# Altium footprint library CapSMD.PcbLib: 8 footprints
Each footprint in its own frame and in the unit in brackets; x right, y up, seen from the top. Pads: shape width x height; smd on the part's side, far side on the other; paste and mask are expansions set on the pad; w line width, h text height; cw(c..) or ccw(c..) is an arc to the next point about the centre after c.
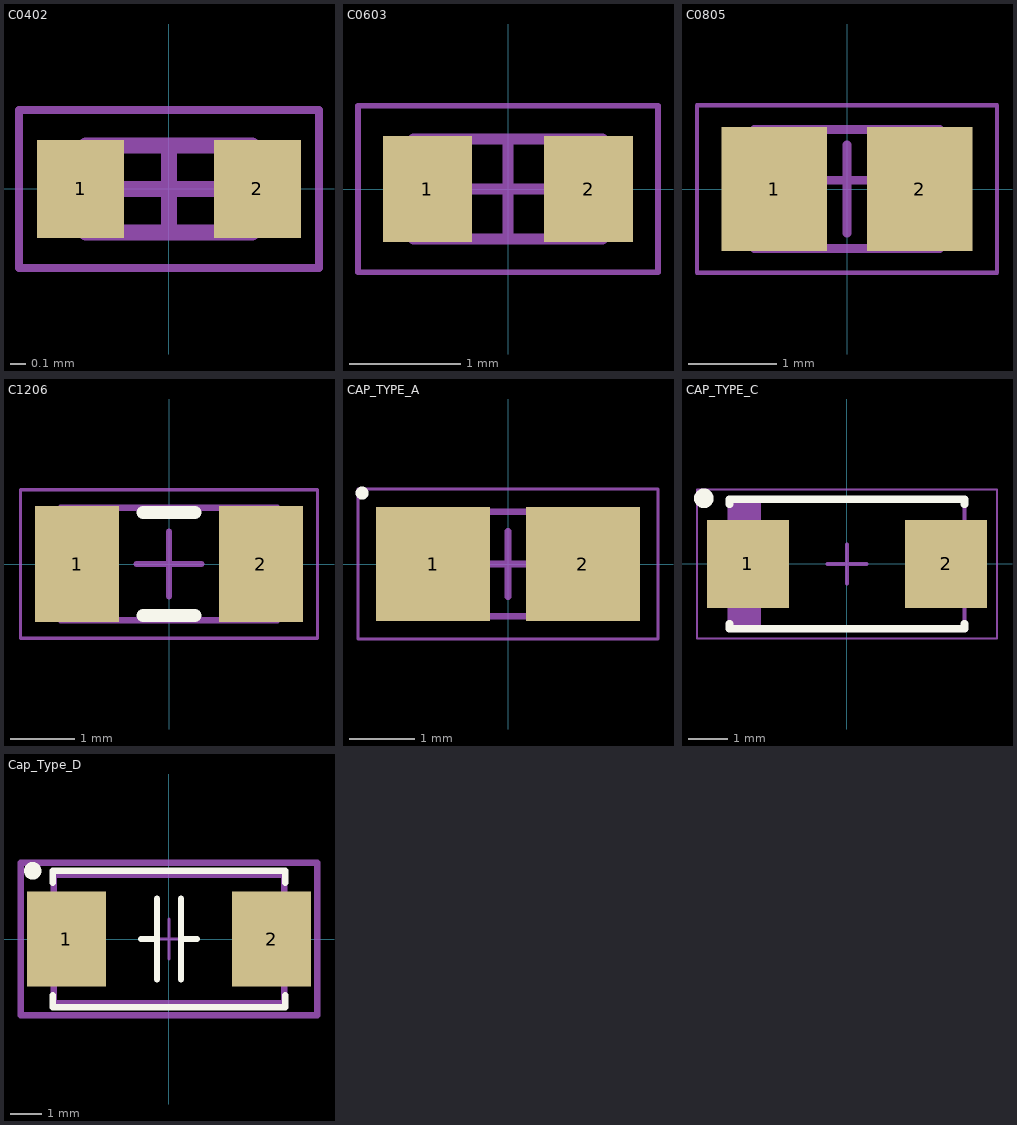
[diagram p0: the footprints below, top view; thin cyan lines are the x and y axes]

## C0402 [mm] "Chip Capacitor, 2-Leads, Body 1,00x0,50mm, IPC Medium Density"
height 0.55
pads (2):
  rect 0.55x0.62 smd: 1(-0.56,0) 2(0.56,0)
Mechanical 13:
  lines w0.1: -0.525,-0.275 0.525,-0.275 0.525,0.275 -0.525,0.275 -0.525,-0.275
Mechanical 15:
  lines w0.05: -0.95,-0.5 0.95,-0.5 0.95,0.5 -0.95,0.5 -0.95,-0.5
  lines w0.1: -0.275,0 0.275,0 ; 0,-0.275 0,0.275
3D body: height 0.55, standoff 0, extent 0.295,-0.275 0.525,0.275
3D body: height 0.55, standoff 0, extent -0.525,-0.275 -0.295,0.275
3D body: height 0.55, standoff 0, extent -0.295,-0.275 0.295,0.275

## C0603 [mm] "Chip Capacitor, 2-Leads, Body 1,60x0,80mm, IPC Medium Density"
height 0.9
pads (2):
  rect 0.8x0.95 smd: 1(-0.725,0) 2(0.725,0)
Mechanical 13:
  lines w0.1: -0.85,-0.45 -0.85,0.45 0.85,0.45 0.85,-0.45 -0.85,-0.45
Mechanical 15:
  lines w0.05: -1.35,-0.75 -1.35,0.75 1.35,0.75 1.35,-0.75 -1.35,-0.75
  lines w0.1: -0.45,0 0.45,0 ; 0,-0.45 0,0.45
3D body: height 0.9, standoff 0, extent -0.45,-0.45 0.45,0.45
3D body: height 0.9, standoff 0, extent -0.85,-0.45 -0.45,0.45
3D body: height 0.9, standoff 0, extent 0.45,-0.45 0.85,0.45

## C0805 [mm] "Chip Capacitor, 2-Leads, Body 2,00x1,25mm, IPC Medium Density"
height 1.35
pads (2):
  rect 1.2x1.4 smd: 1(-0.825,0) 2(0.825,0)
Mechanical 13:
  lines w0.1: -1.05,-0.675 -1.05,0.675 1.05,0.675 1.05,-0.675 -1.05,-0.675
Mechanical 15:
  lines w0.05: -1.7,-0.95 -1.7,0.95 1.7,0.95 1.7,-0.95 -1.7,-0.95
  lines w0.1: -0.5,0.1 0.5,0.1 ; 0,-0.5 0,0.5
3D body: height 1.35, standoff 0, extent -0.55,-0.675 0.55,0.675
3D body: height 1.35, standoff 0, extent -1.05,-0.675 -0.55,0.675
3D body: height 1.35, standoff 0, extent 0.55,-0.675 1.05,0.675

## C1206 [mm] "Chip Capacitor, 2-Leads, Body 3,20x1,60mm, IPC Medium Density"
height 1.35
pads (2):
  rect 1.3x1.8 smd: 1(-1.425,0) 2(1.425,0)
Top Overlay:
  lines w0.2: -0.4,-0.8 0.4,-0.8 ; -0.4,0.8 0.4,0.8
Mechanical 13:
  lines w0.1: -1.675,-0.875 1.675,-0.875 1.675,0.875 -1.675,0.875 -1.675,-0.875
Mechanical 15:
  lines w0.05: -2.3,-1.15 2.3,-1.15 2.3,1.15 -2.3,1.15 -2.3,-1.15
  lines w0.1: -0.5,0 0.5,0 ; 0,-0.5 0,0.5
3D body "User Library-Vhip cap 1206.step": height 1.75, standoff 0.05, extent -1.6,-0.87 1.6,0.87

## CAP_TYPE_A [mm] "Chip Capacitor, 2-Leads, Body 3,20x1,60mm, IPC Medium Density"
height 1.6
pads (2):
  rect 1.75x1.75 smd: 1(-1.15,0) 2(1.15,0)
Top Overlay:
  circle w0.1: c-2.237,1.087 r0.05
Mechanical 13:
  lines w0.1: -1.6,-0.8 -1.6,0.8 1.6,0.8 1.6,-0.8 -1.6,-0.8
Mechanical 15:
  lines w0.05: -2.3,-1.15 -2.3,1.15 2.3,1.15 2.3,-1.15 -2.3,-1.15
  lines w0.1: -0.5,0 0.5,0 ; 0,-0.5 0,0.5
3D body "User Library-CAP_TANT_3216-18_A_case.step": height 1.8, standoff 0, extent -1.7,-0.9 1.7,0.9

## CAP_TYPE_C [mm] "Molded Capacitor, 2-Leads, Body 6,00x3,20mm, IPC Medium Density"
height 2.5
pads (2):
  rect 2.1x2.25 smd: 1(-2.525,0) 2(2.525,0)
Top Overlay:
  circle w0.25: c-3.65,1.675 r0.125
  lines w0.2: -3,-1.525 -3,-1.65 3,-1.65 3,-1.525 ; -3,1.525 -3,1.65 3,1.65 3,1.525
Mechanical 13:
  rectangle: -3,-1.6 -2.193,1.6
  lines w0.1: -3,-1.6 -3,1.6 3,1.6 3,-1.6 -3,-1.6
Mechanical 15:
  lines w0.05: -3.825,-1.9 -3.825,1.9 3.825,1.9 3.825,-1.9 -3.825,-1.9
  lines w0.1: -0.5,0 0.5,0 ; 0,-0.5 0,0.5
3D body "User Library-Tantalum Capacitor Case C.STEP": height 2.72, standoff 0.03, extent -3.2,-1.603 2.985,1.603

## Cap_Type_D [mm]
pads (2):
  rect 2.5x3 smd: 1(-3.25,0) 2(3.25,0)
Top Overlay:
  circle w0.3: c-4.318,2.159 r0.127
  lines w0.2: -3.683,-1.778 -3.683,-2.159 3.683,-2.159 3.683,-1.778 ; -3.683,1.778 -3.683,2.159 3.683,2.159 3.683,1.778 ; -0.889,0 -0.381,0 ; -0.381,-1.27 -0.381,1.27 ; 0.381,-1.27 0.381,1.27 ; 0.381,0 0.889,0
Mechanical 13:
  lines w0.2: -3.65,-2.032 -3.65,2.032 3.65,2.032 3.65,-2.032 -3.65,-2.032
Mechanical 15:
  lines w0.1: -0.635,0 0.635,0 ; 0,-0.635 0,0.635
  lines w0.2: -4.699,-2.413 -4.699,2.413 4.699,2.413 4.699,-2.413 -4.699,-2.413
3D body "User Library-CaseD_7343-31.STEP": height 2.8, standoff 0, extent -3.65,-2.15 3.65,2.15

## PCBComponent_1 [mm]